# Altium schematic symbol library SCH - PASSIVES - POTENTIOMETER.SCHLIB: 1 symbol
Pins are listed as number, name and electrical type; pins without a type are passive.

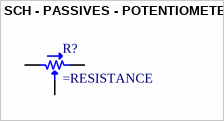
[diagram p0: symbol SCH - PASSIVES - POTENTIOMETER]

## SCH - PASSIVES - POTENTIOMETER
designator R?
Potentiometer
pins: 1, 2, 3